# Altium schematic symbol library SX1308.SchLib: 1 symbol
Pins are listed as number, name and electrical type; pins without a type are passive.

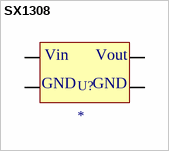
[diagram p0: symbol SX1308]

## SX1308
designator U?
pins: 1 Vin (power), 2 Vout (power), 3 GND (power), 4 GND